# Altium schematic symbol library ADPL42002ARDZ-3.3-R7.SchLib: 1 symbol
Pins are listed as number, name and electrical type; pins without a type are passive.

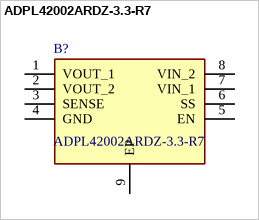
[diagram p0: symbol ADPL42002ARDZ-3.3-R7]

## ADPL42002ARDZ-3.3-R7
designator B?
20V, 200mA, Low Noise, CMOS LDO Linear Regulator; Manufacturer_Name: Analog Devices; Geometry.Height: 1.75mm; Mouser Part Number: *; Mouser Price/Stock: *; Manufacturer_Part_Number: ADPL42002ARDZ-3.3-R7; Datasheet Link: https://www.analog.com/media/en/technical-documentation/data-sheets/adpl42002.pdf
footprint SOIC127P600X175-9N
pins: 1 VOUT_1, 2 VOUT_2, 3 SENSE, 4 GND, 5 EN, 6 SS, 7 VIN_1, 8 VIN_2, 9 EP